# Altium integrated library ERA2AEB512X (1).IntLib: 1 symbol
Pins are listed as number, name and electrical type; pins without a type are passive.

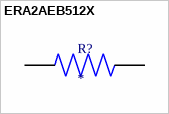
[diagram p0: symbol ERA2AEB512X]

## ERA2AEB512X
designator R?
MP: ERA2AEB512X; Availability: Unavailable; Package: None; Price: None; Value: *
footprint RES_ERA2AEB512X
pins: 1, 2